# EAGLE library part TERMINAL20 (library MyLibrary)
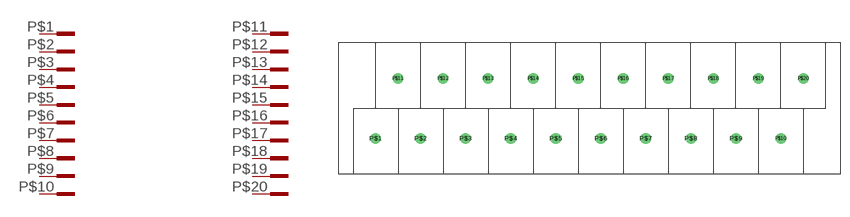
[diagram p1: symbol with the pads of ML-740-W1BF-20P; footprint ML-740-W1BF-20P]

Designator prefix -; gates G$1=TERMINAL10 G$2=TERMINAL10

## TERMINAL20  [ML-740-W1BF-20P]
P$1  G$1:P$1
P$2  G$1:P$2
P$3  G$1:P$3
P$4  G$1:P$4
P$5  G$1:P$5
P$6  G$1:P$6
P$7  G$1:P$7
P$8  G$1:P$8
P$9  G$1:P$9
P$10  G$1:P$10
P$11  G$2:P$1
P$12  G$2:P$2
P$13  G$2:P$3
P$14  G$2:P$4
P$15  G$2:P$5
P$16  G$2:P$6
P$17  G$2:P$7
P$18  G$2:P$8
P$19  G$2:P$9
P$20  G$2:P$10

## Footprint ML-740-W1BF-20P (pad centres in mm)
drill 1.2: P$1 -34.29,-5.08; P$2 -26.67,-5.08; P$3 -19.05,-5.08; P$4 -11.43,-5.08; P$5 -3.81,-5.08; P$6 3.81,-5.08; P$7 11.43,-5.08; P$8 19.05,-5.08; P$9 26.67,-5.08; P$10 34.29,-5.08; P$11 -30.48,5.08; P$12 -22.86,5.08; P$13 -15.24,5.08; P$14 -7.62,5.08; P$15 0,5.08; P$16 7.62,5.08; P$17 15.24,5.08; P$18 22.86,5.08; P$19 30.48,5.08; P$20 38.1,5.08